# Altium schematic symbol library MODCMP-P056-M10X10_New.SchLib: 1 symbol
Pins are listed as number, name and electrical type; pins without a type are passive.

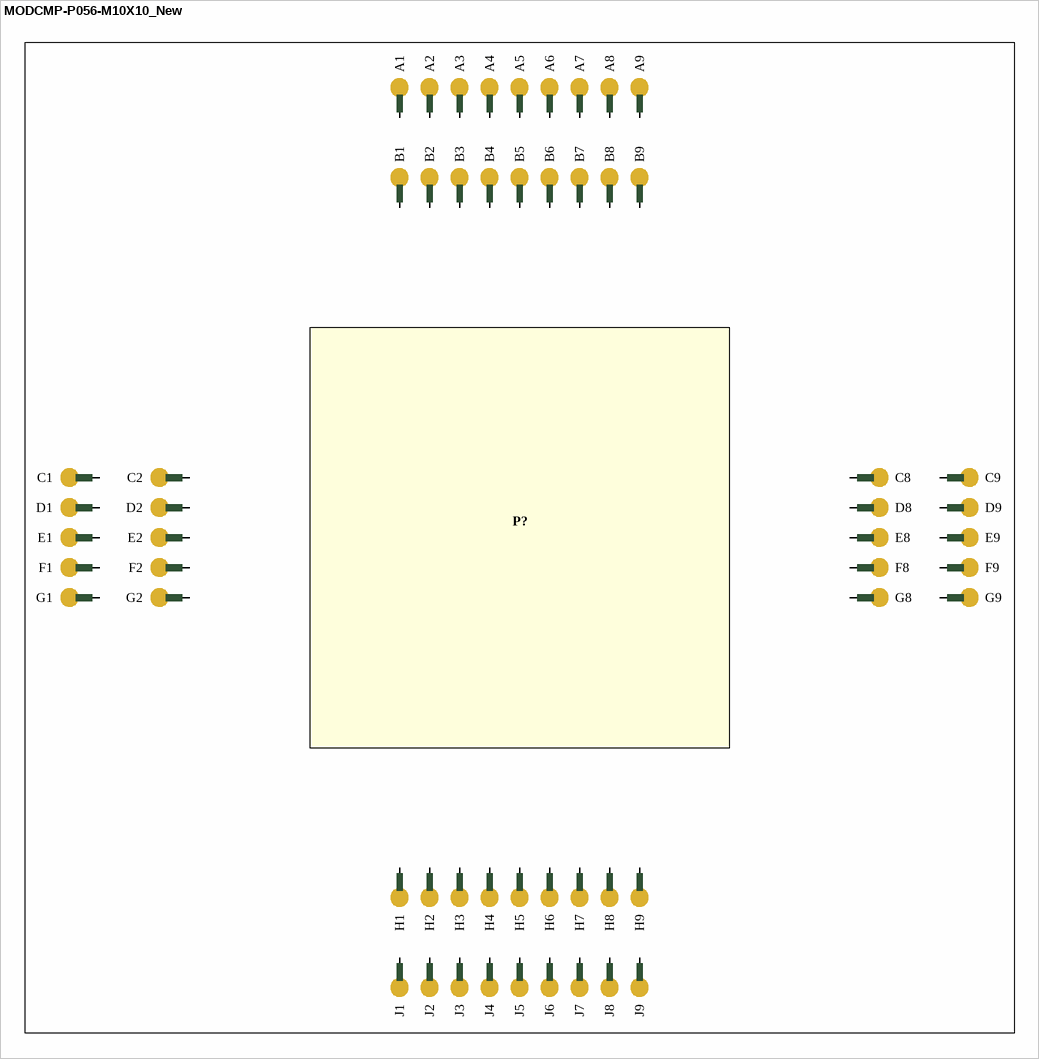
[diagram p0: symbol MODCMP-P056-M10X10_New]

## MODCMP-P056-M10X10_New
designator P?  (no BOM)
pins: A1, A2, A3, A4, A5, A6, A7, A8, A9, B1, B2, B3, B4, B5, B6, B7, B8, B9, C1, C2, C8, C9, D1, D2, D8, D9, E1, E2, E8, E9, F1, F2, F8, F9, G1, G2, G8, G9, H1, H2, H3, H4, H5, H6, H7, H8, H9, J1, J2, J3, J4, J5, J6, J7, J8, J9